# EAGLE library part SENSOR-HSC-ANALOG (library deiring-components)
Board Mount Pressure Sensors
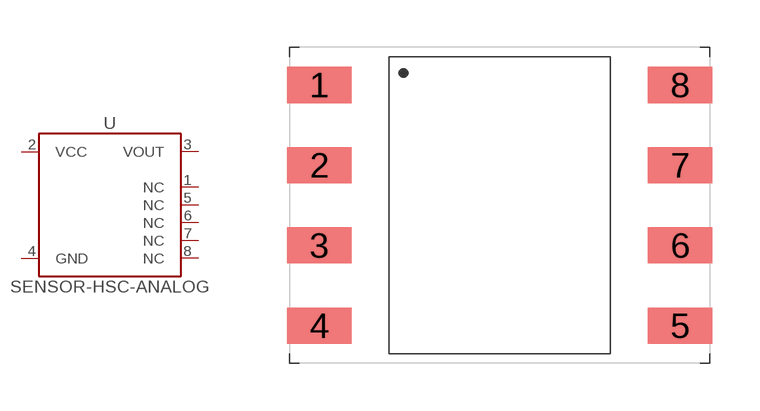
[diagram p20: symbol with the pads of SMT; footprint SMT]

Designator prefix U

## SENSOR-HSC-ANALOG-HSCMAND001BAAA5 (MF: Honeywell; MPN: HSCMAND001BAAA5; VALUE: HSCMAND001BAAA5; VOLTAGE: 5V), SENSOR-HSC-ANALOG-HSCMANV001BAAA5 (MF: Honeywell; MPN: HSCMANV001BAAA5; VALUE: HSCMANV001BAAA5; VOLTAGE: 5V)  [SMT]
1  NC  nc
2  VCC  pwr
3  VOUT
4  GND  pwr
5  NC  nc
6  NC  nc
7  NC  nc
8  NC  nc

## Footprint SMT (pad centres in mm)
smd 2.032 x 1.143: 1 -5.715,3.81; 2 -5.715,1.27; 3 -5.715,-1.27; 4 -5.715,-3.81; 5 5.715,-3.81; 6 5.715,-1.27; 7 5.715,1.27; 8 5.715,3.81